# Altium schematic symbol library My SchLib.SchLib: 1 symbol
Pins are listed as number, name and electrical type; pins without a type are passive.

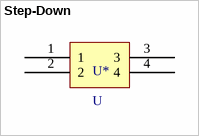
[diagram p0: symbol Step-Down]

## Step-Down
designator U*, comment U
footprint PCBComponent_1
pins: 1, 2, 3, 4